# EAGLE library part MC6808 (library bt)
Motorola MC6808 8-bit CPU
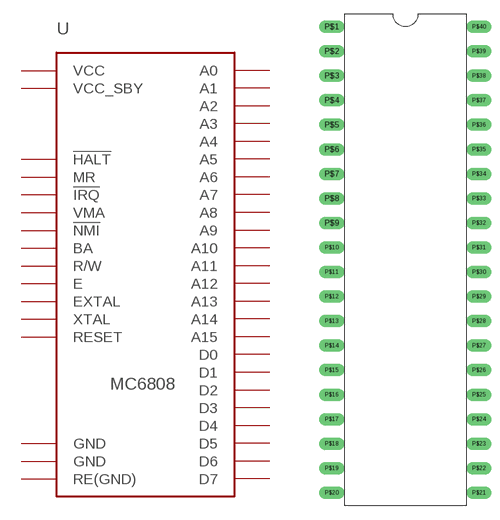
[diagram p18: symbol with the pads of DIL40-6; footprint DIL40-6]

Designator prefix U

## MC6808  [DIL40-6]
P$1  GND  pwr
P$2  !HALT
P$3  MR
P$4  !IRQ
P$5  VMA
P$6  !NMI
P$7  BA
P$8  VCC
P$9  A0
P$10  A1
P$11  A2
P$12  A3
P$13  A4
P$14  A5
P$15  A6
P$16  A7
P$17  A8
P$18  A9
P$19  A10
P$20  A11
P$21  GND  pwr
P$22  A12
P$23  A13
P$24  A14
P$25  A15
P$26  D7
P$27  D6
P$28  D5
P$29  D4
P$30  D3
P$31  D2
P$32  D1
P$33  D0
P$34  R/W
P$35  VCC_SBY
P$36  RE(GND)
P$37  E
P$38  EXTAL
P$39  XTAL
P$40  RESET

## Footprint DIL40-6 (pad centres in mm)
drill 0.8 long: P$1 -7.62,24.13; P$2 -7.62,21.59; P$3 -7.62,19.05; P$4 -7.62,16.51; P$5 -7.62,13.97; P$6 -7.62,11.43; P$7 -7.62,8.89; P$8 -7.62,6.35; P$9 -7.62,3.81; P$10 -7.62,1.27; P$11 -7.62,-1.27; P$12 -7.62,-3.81; P$13 -7.62,-6.35; P$14 -7.62,-8.89; P$15 -7.62,-11.43; P$16 -7.62,-13.97; P$17 -7.62,-16.51; P$18 -7.62,-19.05; P$19 -7.62,-21.59; P$20 -7.62,-24.13; P$21 7.62,-24.13; P$22 7.62,-21.59; P$23 7.62,-19.05; P$24 7.62,-16.51; P$25 7.62,-13.97; P$26 7.62,-11.43; P$27 7.62,-8.89; P$28 7.62,-6.35; P$29 7.62,-3.81; P$30 7.62,-1.27; P$31 7.62,1.27; P$32 7.62,3.81; P$33 7.62,6.35; P$34 7.62,8.89; P$35 7.62,11.43; P$36 7.62,13.97; P$37 7.62,16.51; P$38 7.62,19.05; P$39 7.62,21.59; P$40 7.62,24.13